# EAGLE library part SSM-120-S-DV (library Joule Expansion Board)
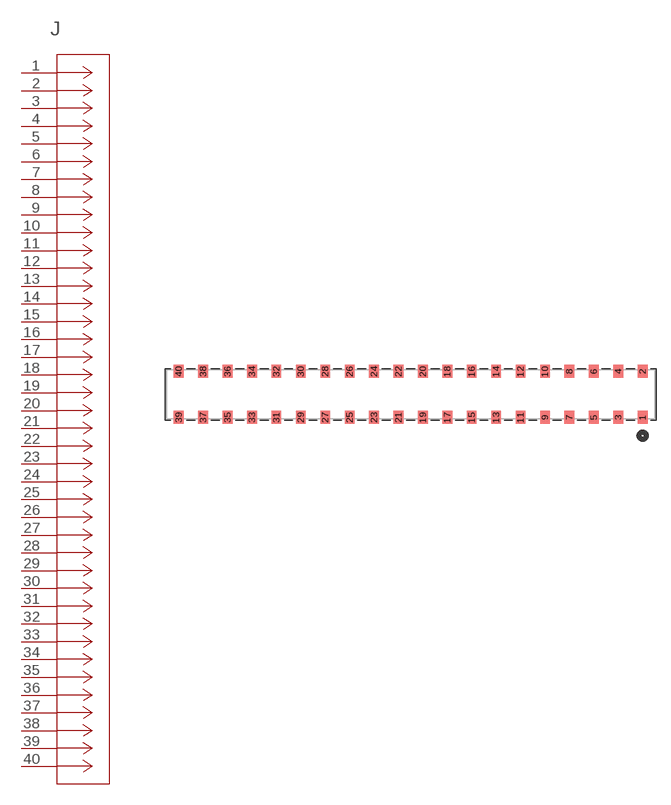
[diagram p0: symbol with the pads of CON40_2X20_DU_SSM; footprint CON40_2X20_DU_SSM]

Designator prefix J

## SSM-120-S-DV (MANUFACTURER_PART_NUMBER: SSM120SDV; VENDOR: Samtec Inc)  [CON40_2X20_DU_SSM]
1  1  pas
2  2  pas
3  3  pas
4  4  pas
5  5  pas
6  6  pas
7  7  pas
8  8  pas
9  9  pas
10  10  pas
11  11  pas
12  12  pas
13  13  pas
14  14  pas
15  15  pas
16  16  pas
17  17  pas
18  18  pas
19  19  pas
20  20  pas
21  21  pas
22  22  pas
23  23  pas
24  24  pas
25  25  pas
26  26  pas
27  27  pas
28  28  pas
29  29  pas
30  30  pas
31  31  pas
32  32  pas
33  33  pas
34  34  pas
35  35  pas
36  36  pas
37  37  pas
38  38  pas
39  39  pas
40  40  pas

## Footprint CON40_2X20_DU_SSM (pad centres in mm)
smd 1.016 x 1.346: 1 24.13,-2.388; 2 24.13,2.388; 3 21.59,-2.388; 4 21.59,2.388; 5 19.05,-2.388; 6 19.05,2.388; 7 16.51,-2.388; 8 16.51,2.388; 9 13.97,-2.388; 10 13.97,2.388; 11 11.43,-2.388; 12 11.43,2.388; 13 8.89,-2.388; 14 8.89,2.388; 15 6.35,-2.388; 16 6.35,2.388; 17 3.81,-2.388; 18 3.81,2.388; 19 1.27,-2.388; 20 1.27,2.388; 21 -1.27,-2.388; 22 -1.27,2.388; 23 -3.81,-2.388; 24 -3.81,2.388; 25 -6.35,-2.388; 26 -6.35,2.388; 27 -8.89,-2.388; 28 -8.89,2.388; 29 -11.43,-2.388; 30 -11.43,2.388; 31 -13.97,-2.388; 32 -13.97,2.388; 33 -16.51,-2.388; 34 -16.51,2.388; 35 -19.05,-2.388; 36 -19.05,2.388; 37 -21.59,-2.388; 38 -21.59,2.388; 39 -24.13,-2.388; 40 -24.13,2.388